# EAGLE library part WE-FB_LT35XX/LT3748_EP13_750311681 (library wurth_elektronik_passive_rev16d)
WE-FB Flyback Transformer LT35xx / LT3748 Characteristics Standard transformers for various output voltages currents available Easy design of custom power supply due to standard circuit and change of transformers and two components for feedback loop Isolation voltage up to 2.5 kV Applications Isolated power design Sensor interfaces Isolated telecom converters Power over Ethernet <http://katalog.we-online.de/media/images/eisos/UtFB_LT_MID_pf2.jpg> Details see: http://katalog.we-online.de/en/pbs/WE-FB_Linear? Updated 2015-04-03 2015 (C) Wurth Elektronik
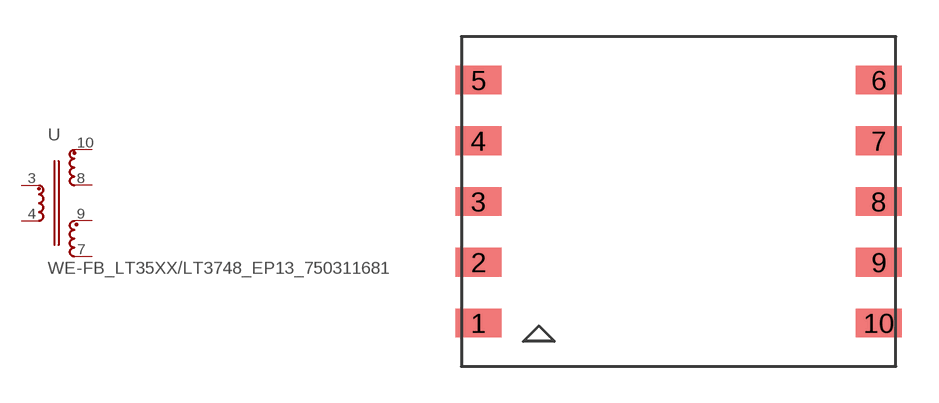
[diagram p85: symbol with the pads of WE-FB_EP13_DIMENSION1; footprint WE-FB_EP13_DIMENSION1]

Designator prefix -

## WE-FB_LT35XX/LT3748_EP13_750311681  [WE-FB_EP13_DIMENSION1]
3  1  pas
4  6  pas
7  5  pas
8  3  pas
9  4  pas
10  2  pas

## Footprint WE-FB_EP13_DIMENSION1 (pad centres in mm)
smd 1.88 x 1.17: 1 -8.18,-4.96; 2 -8.18,-2.48; 3 -8.18,0; 4 -8.18,2.48; 5 -8.18,4.96; 6 8.18,4.96; 7 8.18,2.48; 8 8.18,0; 9 8.18,-2.48; 10 8.18,-4.96